# EAGLE library part TLC5916/17 (library BillPorter)
SN74LS247 BCD-To-Seven-Segment Decoders/Drivers
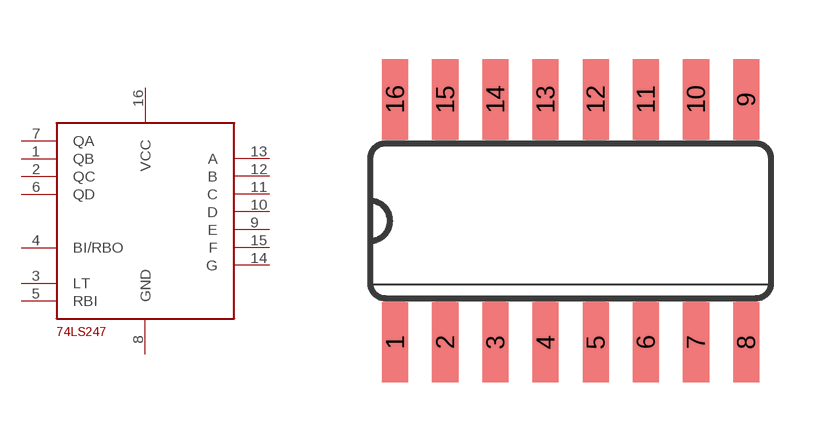
[diagram p5: symbol with the pads of SOIC-16; footprint SOIC-16]

Designator prefix 74LS247

## TLC5916/17  [SOIC-16]
1  QB
2  QC
3  LT
4  BI/RBO
5  RBI
6  QD
7  QA
8  GND
9  E
10  D
11  C
12  B
13  A
14  G
15  F
16  VCC

## Footprint SOIC-16 (pad centres in mm)
smd 0.66 x 2.032: 1 -4.075,-3.073; 2 -2.805,-3.073; 3 -1.535,-3.073; 4 -0.265,-3.073; 5 1.005,-3.073; 6 2.275,-3.073; 7 3.545,-3.073; 8 4.815,-3.073; 9 4.815,3.073; 10 3.545,3.073; 11 2.275,3.073; 12 1.005,3.073; 13 -0.265,3.073; 14 -1.535,3.073; 15 -2.805,3.073; 16 -4.075,3.073